# Altium schematic symbol library SCH - POWER - LINEAR VREG - TI TPS7A6401-Q1_PWP_14.SchLib: 1 symbol
Pins are listed as number, name and electrical type; pins without a type are passive.

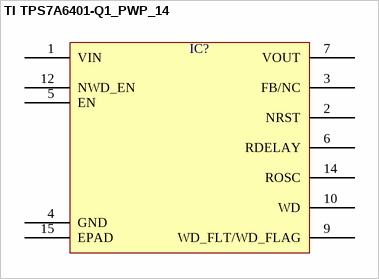
[diagram p0: symbol TI TPS7A6401-Q1_PWP_14]

## TI TPS7A6401-Q1_PWP_14
designator IC?  (value not drawn)
pins: 1 VIN, 2 NRST, 3 FB/NC, 4 GND, 5 EN, 6 RDELAY, 7 VOUT, 9 WD_FLT/WD_FLAG, 10 WD, 12 NWD_EN, 14 ROSC, 15 EPAD